# Altium integrated library TI Interface LVDS M-LVDS ECL CML.IntLib: 251 symbols (part 1 of 10)
Pins are listed as number, name and electrical type; pins without a type are passive.

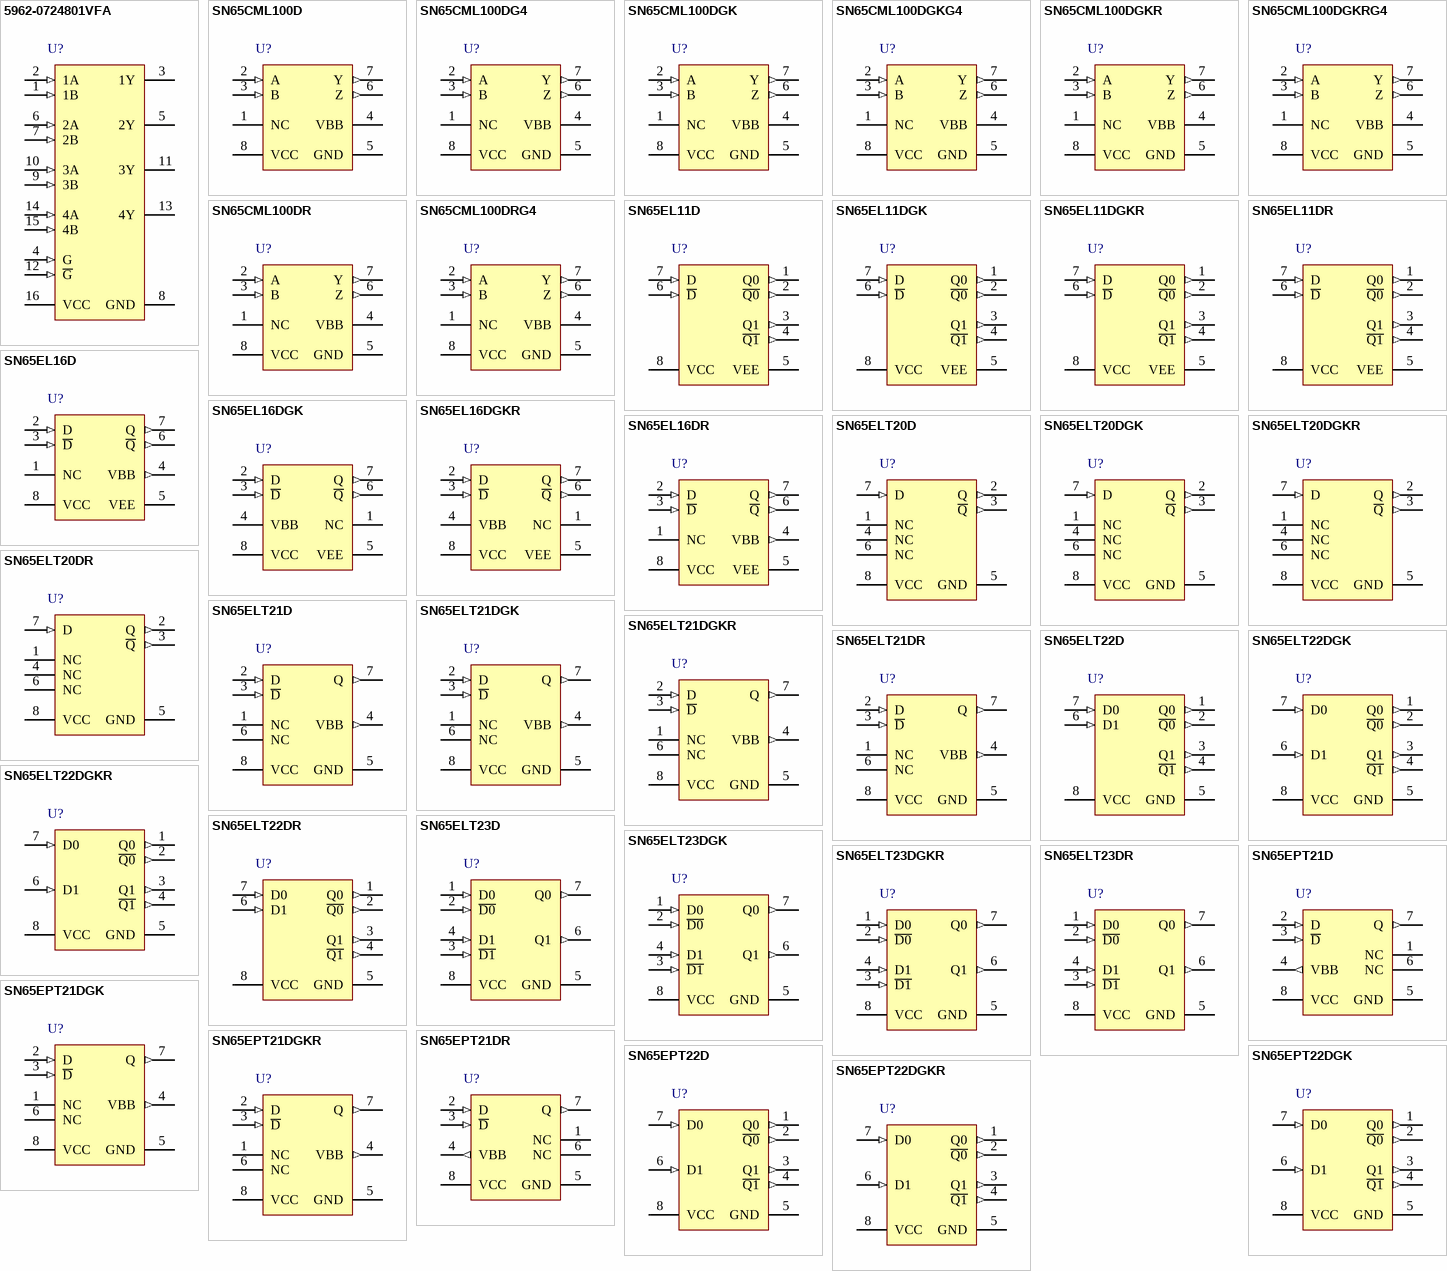
[diagram p0: symbols 5962-0724801VFA to SN65EPT22DGKR]

## 5962-0724801VFA
designator U?
High-Speed Differential Receiver, -55 to +125 degC, 16-pin CFP (W); Manufacturer: Texas Instruments; PartNumber: 5962-0724801VFA; Eco-Plan: TBD; ESD HBM(kV): 15; ICC(Max)(mA): 25; SubFamily: LVDS PHY (<800Mbps); DatasheetVersion: SGLS393C; PackageVersion: revD, Jul-2003; PackageReference: W16; PackageDescription: 16-Lead Ceramic Dual Flatpack, Body 10.9 x 7.2 mm (LxW max), Pitch 1.27 mm; Function: Receiver; Mounting Technology: Surface Mount; Code_JEDEC: MO-092-AC; ComponentLink1Description: Datasheet; ComponentLink1URL: http://www.ti.com/general/docs/lit/getliterature.tsp?genericPartNumber=SN55LVDS33-SP&fileType=pdf; ComponentLink2Description: URL Link1; ComponentLink2URL: SamplesURL:http://www.ti.com/product/sn55lvds33-sp#samples
footprint W16 (DFP, 16 Leads, Body 10.2x6.7mm, Pitch 1.27mm, Gullwing Leadform)
pins: 1 1B (in), 2 1A (in), 3 1Y (hiz), 4 G (in), 5 2Y (hiz), 6 2A (in), 7 2B (in), 8 GND (power), 9 3B (in), 10 3A (in), 11 3Y (hiz), 12 ~{G} (in), 13 4Y (hiz), 14 4A (in), 15 4B (in), 16 VCC (power)

## SN65CML100D
designator U?
1.5 Gbps LVDS / LVPECL / CML to CML Translator / Repeater with CML, LVDS, LVPECL Input and CML Output, 1 Tx and 1 Rx, -40 to +85 degC, 8-pin SOIC (D), Green (RoHS & no Sb/Br); Part-to-Part Skew(Max)(ps): 100; Manufacturer: Texas Instruments; PartNumber: SN65CML100D; ESD HBM(kV): 5; ICC(Max)(mA): 12; No. of Rx: 1; Peak-to-Peak Jitter(Max)(ps): 70; Signaling Rate(Mbps): 1500; SubFamily: Repeater/Translator (>1Gbps); DatasheetVersion: SLLS547; PackageVersion: revM, Jun-2011; PackageReference: D14; PackageDescription: 14-Pin Plastic Small Outline Integrated Circuit, 8.7 x 3.9 mm, Pitch 1.27 mm Pitch; Eco-Plan: Green (RoHS & no Sb/Br); Input Signal: CML, LVDS, LVPECL; No. of Tx: 1; Output Signal: CML; Mounting Technology: Surface Mount; Code_JEDEC: MS-012AB; ComponentLink1Description: Datasheet; ComponentLink1URL: http://www.ti.com/general/docs/lit/getliterature.tsp?genericPartNumber=SN65CML100&fileType=pdf; ComponentLink2Description: URL Link1; ComponentLink2URL: SamplesURL:http://www.ti.com/product/sn65cml100#samples
footprint D14_N (SOIC, 14-Leads, Body 8.7x3.9mm, Pitch 1.27mm, IPC Medium Density)
footprint D14_L (SOIC, 14-Leads, Body 8.7x3.9mm, Pitch 1.27mm, IPC High Density)
footprint D14_M (SOIC, 14-Leads, Body 8.7x3.9mm, Pitch 1.27mm, IPC Low Density)
pins: 1 NC "No connect", 2 A (in) "Differential input", 3 B (in) "Differential input", 4 VBB "Reference voltage output", 5 GND (power) "Ground", 6 Z (out) "Differential output", 7 Y (out) "Differential output", 8 VCC (power) "Power supply"

## SN65CML100DG4
designator U?
1.5 Gbps LVDS / LVPECL / CML to CML Translator / Repeater with CML, LVDS, LVPECL Input and CML Output, 1 Tx and 1 Rx, -40 to +85 degC, 8-pin SOIC (D), Green (RoHS & no Sb/Br); Part-to-Part Skew(Max)(ps): 100; Manufacturer: Texas Instruments; PartNumber: SN65CML100DG4; ESD HBM(kV): 5; ICC(Max)(mA): 12; No. of Rx: 1; Peak-to-Peak Jitter(Max)(ps): 70; Signaling Rate(Mbps): 1500; SubFamily: Repeater/Translator (>1Gbps); DatasheetVersion: SLLS547; PackageVersion: revM, Jun-2011; PackageReference: D14; PackageDescription: 14-Pin Plastic Small Outline Integrated Circuit, 8.7 x 3.9 mm, Pitch 1.27 mm Pitch; Eco-Plan: Green (RoHS & no Sb/Br); Input Signal: CML, LVDS, LVPECL; No. of Tx: 1; Output Signal: CML; Mounting Technology: Surface Mount; Code_JEDEC: MS-012AB; ComponentLink1Description: Datasheet; ComponentLink1URL: http://www.ti.com/general/docs/lit/getliterature.tsp?genericPartNumber=SN65CML100&fileType=pdf; ComponentLink2Description: URL Link1; ComponentLink2URL: SamplesURL:http://www.ti.com/product/sn65cml100#samples
footprint D14_N (SOIC, 14-Leads, Body 8.7x3.9mm, Pitch 1.27mm, IPC Medium Density)
footprint D14_L (SOIC, 14-Leads, Body 8.7x3.9mm, Pitch 1.27mm, IPC High Density)
footprint D14_M (SOIC, 14-Leads, Body 8.7x3.9mm, Pitch 1.27mm, IPC Low Density)
pins: 1 NC "No connect", 2 A (in) "Differential input", 3 B (in) "Differential input", 4 VBB "Reference voltage output", 5 GND (power) "Ground", 6 Z (out) "Differential output", 7 Y (out) "Differential output", 8 VCC (power) "Power supply"

## SN65CML100DGK
designator U?
1.5 Gbps LVDS / LVPECL / CML to CML Translator / Repeater with CML, LVDS, LVPECL Input and CML Output, 1 Tx and 1 Rx, -40 to +85 degC, 8-pin VSSOP (DGK), Green (RoHS & no Sb/Br); Part-to-Part Skew(Max)(ps): 100; Manufacturer: Texas Instruments; PartNumber: SN65CML100DGK; ESD HBM(kV): 5; ICC(Max)(mA): 12; No. of Rx: 1; Peak-to-Peak Jitter(Max)(ps): 70; Signaling Rate(Mbps): 1500; SubFamily: Repeater/Translator (>1Gbps); DatasheetVersion: SLLS547; PackageVersion: revE, May-2006; PackageReference: DGK8; PackageDescription: 8-Pin Thin Small Outline Package 3 x 3 mm Body ,0.65 mm Pitch; Eco-Plan: Green (RoHS & no Sb/Br); Input Signal: CML, LVDS, LVPECL; No. of Tx: 1; Output Signal: CML; Mounting Technology: Surface Mount; Code_JEDEC: MO-187-AA; ComponentLink1Description: Datasheet; ComponentLink1URL: http://www.ti.com/general/docs/lit/getliterature.tsp?genericPartNumber=SN65CML100&fileType=pdf; ComponentLink2Description: URL Link1; ComponentLink2URL: SamplesURL:http://www.ti.com/product/sn65cml100#samples
footprint DGK8_N (TSOP, 8-Leads, Body 3x3mm, Pitch 0.65mm, IPC Medium Density)
footprint DGK8_L (TSOP, 8-Leads, Body 3x3mm, Pitch 0.65mm, IPC High Density)
footprint DGK8_M (TSOP, 8-Leads, Body 3x3mm, Pitch 0.65mm, IPC Low Density)
pins: 1 NC "No connect", 2 A (in) "Differential input", 3 B (in) "Differential input", 4 VBB "Reference voltage output", 5 GND (power) "Ground", 6 Z (out) "Differential output", 7 Y (out) "Differential output", 8 VCC (power) "Power supply"

## SN65CML100DGKG4
designator U?
1.5 Gbps LVDS / LVPECL / CML to CML Translator / Repeater with CML, LVDS, LVPECL Input and CML Output, 1 Tx and 1 Rx, -40 to +85 degC, 8-pin VSSOP (DGK), Green (RoHS & no Sb/Br); Part-to-Part Skew(Max)(ps): 100; Manufacturer: Texas Instruments; PartNumber: SN65CML100DGKG4; ESD HBM(kV): 5; ICC(Max)(mA): 12; No. of Rx: 1; Peak-to-Peak Jitter(Max)(ps): 70; Signaling Rate(Mbps): 1500; SubFamily: Repeater/Translator (>1Gbps); DatasheetVersion: SLLS547; PackageVersion: revE, May-2006; PackageReference: DGK8; PackageDescription: 8-Pin Thin Small Outline Package 3 x 3 mm Body ,0.65 mm Pitch; Eco-Plan: Green (RoHS & no Sb/Br); Input Signal: CML, LVDS, LVPECL; No. of Tx: 1; Output Signal: CML; Mounting Technology: Surface Mount; Code_JEDEC: MO-187-AA; ComponentLink1Description: Datasheet; ComponentLink1URL: http://www.ti.com/general/docs/lit/getliterature.tsp?genericPartNumber=SN65CML100&fileType=pdf; ComponentLink2Description: URL Link1; ComponentLink2URL: SamplesURL:http://www.ti.com/product/sn65cml100#samples
footprint DGK8_N (TSOP, 8-Leads, Body 3x3mm, Pitch 0.65mm, IPC Medium Density)
footprint DGK8_L (TSOP, 8-Leads, Body 3x3mm, Pitch 0.65mm, IPC High Density)
footprint DGK8_M (TSOP, 8-Leads, Body 3x3mm, Pitch 0.65mm, IPC Low Density)
pins: 1 NC "No connect", 2 A (in) "Differential input", 3 B (in) "Differential input", 4 VBB "Reference voltage output", 5 GND (power) "Ground", 6 Z (out) "Differential output", 7 Y (out) "Differential output", 8 VCC (power) "Power supply"

## SN65CML100DGKR
designator U?
1.5 Gbps LVDS / LVPECL / CML to CML Translator / Repeater with CML, LVDS, LVPECL Input and CML Output, 1 Tx and 1 Rx, -40 to +85 degC, 8-pin VSSOP (DGK), Green (RoHS & no Sb/Br); Part-to-Part Skew(Max)(ps): 100; Manufacturer: Texas Instruments; PartNumber: SN65CML100DGKR; ESD HBM(kV): 5; ICC(Max)(mA): 12; No. of Rx: 1; Peak-to-Peak Jitter(Max)(ps): 70; Signaling Rate(Mbps): 1500; SubFamily: Repeater/Translator (>1Gbps); DatasheetVersion: SLLS547; PackageVersion: revE, May-2006; PackageReference: DGK8; PackageDescription: 8-Pin Thin Small Outline Package 3 x 3 mm Body ,0.65 mm Pitch; Eco-Plan: Green (RoHS & no Sb/Br); Input Signal: CML, LVDS, LVPECL; No. of Tx: 1; Output Signal: CML; Mounting Technology: Surface Mount; Code_JEDEC: MO-187-AA; ComponentLink1Description: Datasheet; ComponentLink1URL: http://www.ti.com/general/docs/lit/getliterature.tsp?genericPartNumber=SN65CML100&fileType=pdf; ComponentLink2Description: URL Link1; ComponentLink2URL: SamplesURL:http://www.ti.com/product/sn65cml100#samples
footprint DGK8_N (TSOP, 8-Leads, Body 3x3mm, Pitch 0.65mm, IPC Medium Density)
footprint DGK8_L (TSOP, 8-Leads, Body 3x3mm, Pitch 0.65mm, IPC High Density)
footprint DGK8_M (TSOP, 8-Leads, Body 3x3mm, Pitch 0.65mm, IPC Low Density)
pins: 1 NC "No connect", 2 A (in) "Differential input", 3 B (in) "Differential input", 4 VBB "Reference voltage output", 5 GND (power) "Ground", 6 Z (out) "Differential output", 7 Y (out) "Differential output", 8 VCC (power) "Power supply"

## SN65CML100DGKRG4
designator U?
1.5 Gbps LVDS / LVPECL / CML to CML Translator / Repeater with CML, LVDS, LVPECL Input and CML Output, 1 Tx and 1 Rx, -40 to +85 degC, 8-pin VSSOP (DGK), Green (RoHS & no Sb/Br); Part-to-Part Skew(Max)(ps): 100; Manufacturer: Texas Instruments; PartNumber: SN65CML100DGKRG4; ESD HBM(kV): 5; ICC(Max)(mA): 12; No. of Rx: 1; Peak-to-Peak Jitter(Max)(ps): 70; Signaling Rate(Mbps): 1500; SubFamily: Repeater/Translator (>1Gbps); DatasheetVersion: SLLS547; PackageVersion: revE, May-2006; PackageReference: DGK8; PackageDescription: 8-Pin Thin Small Outline Package 3 x 3 mm Body ,0.65 mm Pitch; Eco-Plan: Green (RoHS & no Sb/Br); Input Signal: CML, LVDS, LVPECL; No. of Tx: 1; Output Signal: CML; Mounting Technology: Surface Mount; Code_JEDEC: MO-187-AA; ComponentLink1Description: Datasheet; ComponentLink1URL: http://www.ti.com/general/docs/lit/getliterature.tsp?genericPartNumber=SN65CML100&fileType=pdf; ComponentLink2Description: URL Link1; ComponentLink2URL: SamplesURL:http://www.ti.com/product/sn65cml100#samples
footprint DGK8_N (TSOP, 8-Leads, Body 3x3mm, Pitch 0.65mm, IPC Medium Density)
footprint DGK8_L (TSOP, 8-Leads, Body 3x3mm, Pitch 0.65mm, IPC High Density)
footprint DGK8_M (TSOP, 8-Leads, Body 3x3mm, Pitch 0.65mm, IPC Low Density)
pins: 1 NC "No connect", 2 A (in) "Differential input", 3 B (in) "Differential input", 4 VBB "Reference voltage output", 5 GND (power) "Ground", 6 Z (out) "Differential output", 7 Y (out) "Differential output", 8 VCC (power) "Power supply"

## SN65CML100DR
designator U?
1.5 Gbps LVDS / LVPECL / CML to CML Translator / Repeater with CML, LVDS, LVPECL Input and CML Output, 1 Tx and 1 Rx, -40 to +85 degC, 8-pin SOIC (D), Green (RoHS & no Sb/Br); Part-to-Part Skew(Max)(ps): 100; Manufacturer: Texas Instruments; PartNumber: SN65CML100DR; ESD HBM(kV): 5; ICC(Max)(mA): 12; No. of Rx: 1; Peak-to-Peak Jitter(Max)(ps): 70; Signaling Rate(Mbps): 1500; SubFamily: Repeater/Translator (>1Gbps); DatasheetVersion: SLLS547; PackageVersion: revE, May-2006; PackageReference: DGK8; PackageDescription: 8-Pin Thin Small Outline Package 3 x 3 mm Body ,0.65 mm Pitch; Eco-Plan: Green (RoHS & no Sb/Br); Input Signal: CML, LVDS, LVPECL; No. of Tx: 1; Output Signal: CML; Mounting Technology: Surface Mount; Code_JEDEC: MO-187-AA; ComponentLink1Description: Datasheet; ComponentLink1URL: http://www.ti.com/general/docs/lit/getliterature.tsp?genericPartNumber=SN65CML100&fileType=pdf; ComponentLink2Description: URL Link1; ComponentLink2URL: SamplesURL:http://www.ti.com/product/sn65cml100#samples
footprint DGK8_N (TSOP, 8-Leads, Body 3x3mm, Pitch 0.65mm, IPC Medium Density)
footprint DGK8_L (TSOP, 8-Leads, Body 3x3mm, Pitch 0.65mm, IPC High Density)
footprint DGK8_M (TSOP, 8-Leads, Body 3x3mm, Pitch 0.65mm, IPC Low Density)
pins: 1 NC "No connect", 2 A (in) "Differential input", 3 B (in) "Differential input", 4 VBB "Reference voltage output", 5 GND (power) "Ground", 6 Z (out) "Differential output", 7 Y (out) "Differential output", 8 VCC (power) "Power supply"

## SN65CML100DRG4
designator U?
1.5 Gbps LVDS / LVPECL / CML to CML Translator / Repeater with CML, LVDS, LVPECL Input and CML Output, 1 Tx and 1 Rx, -40 to +85 degC, 8-pin SOIC (D), Green (RoHS & no Sb/Br); Part-to-Part Skew(Max)(ps): 100; Manufacturer: Texas Instruments; PartNumber: SN65CML100DRG4; ESD HBM(kV): 5; ICC(Max)(mA): 12; No. of Rx: 1; Peak-to-Peak Jitter(Max)(ps): 70; Signaling Rate(Mbps): 1500; SubFamily: Repeater/Translator (>1Gbps); DatasheetVersion: SLLS547; PackageVersion: revE, May-2006; PackageReference: DGK8; PackageDescription: 8-Pin Thin Small Outline Package 3 x 3 mm Body ,0.65 mm Pitch; Eco-Plan: Green (RoHS & no Sb/Br); Input Signal: CML, LVDS, LVPECL; No. of Tx: 1; Output Signal: CML; Mounting Technology: Surface Mount; Code_JEDEC: MO-187-AA; ComponentLink1Description: Datasheet; ComponentLink1URL: http://www.ti.com/general/docs/lit/getliterature.tsp?genericPartNumber=SN65CML100&fileType=pdf; ComponentLink2Description: URL Link1; ComponentLink2URL: SamplesURL:http://www.ti.com/product/sn65cml100#samples
footprint DGK8_N (TSOP, 8-Leads, Body 3x3mm, Pitch 0.65mm, IPC Medium Density)
footprint DGK8_L (TSOP, 8-Leads, Body 3x3mm, Pitch 0.65mm, IPC High Density)
footprint DGK8_M (TSOP, 8-Leads, Body 3x3mm, Pitch 0.65mm, IPC Low Density)
pins: 1 NC "No connect", 2 A (in) "Differential input", 3 B (in) "Differential input", 4 VBB "Reference voltage output", 5 GND (power) "Ground", 6 Z (out) "Differential output", 7 Y (out) "Differential output", 8 VCC (power) "Power supply"

## SN65EL11D
designator U?
5000 Mbps PECL / ECL 1:2 Fanout Buffer, 2 Tx and 1 Rx, -40 to +85 degC, 8-pin SOIC (D), Green (RoHS & no Sb/Br); Manufacturer: Texas Instruments; PartNumber: SN65EL11D; ICC(Max)(mA): 26; No. of Rx: 1; No. of Tx: 2; Signaling Rate(Mbps): 5000; SubFamily: PECL PHY; xECL: TRUE; DatasheetVersion: SLLS920; PackageVersion: revM, Jun-2011; PackageReference: D8; PackageDescription: 8-Pin Plastic Small Outline Integrated Circuit, 4.9 x 3.9 mm, Pitch 1.27 mm Pitch; Supplier 1: Digi-Key; Supplier Part Number 1: 296-24023-5-ND; Supplier 2: Newark; Supplier Part Number 2: 40P3856; Supplier 3: Mouser; Supplier Part Number 3: 595-SN65EL11D; Eco-Plan: Green (RoHS & no Sb/Br); Input Signal: PECL/ECL; Output Signal: PECL/ECL; Mounting Technology: Surface Mount; Code_JEDEC: MS-012AA; ComponentLink1Description: Datasheet; ComponentLink1URL: http://www.ti.com/general/docs/lit/getliterature.tsp?genericPartNumber=SN65EL11&fileType=pdf; ComponentLink2Description: URL Link1; ComponentLink2URL: SamplesURL:http://www.ti.com/product/sn65el11#samples
footprint D8_N (SOIC, 8-Leads, Body 4.9x3.9mm, Pitch 1.27mm, IPC Medium Density)
footprint D8_L (SOIC, 8-Leads, Body 4.9x3.9mm, Pitch 1.27mm, IPC High Density)
footprint D8_M (SOIC, 8-Leads, Body 4.9x3.9mm, Pitch 1.27mm, IPC Low Density)
pins: 1 Q0 (out) "PECL/ECL output.", 2 ~{Q0} (out) "PECL/ECL output.", 3 Q1 (out) "PECL/ECL output.", 4 ~{Q1} (out) "PECL/ECL output.", 5 VEE (power) "Negative supply.", 6 ~{D} (in) "PECL/ECL data input.", 7 D (in) "PECL/ECL data input.", 8 VCC (power) "Positive supply."

## SN65EL11DGK
designator U?
5000 Mbps PECL / ECL 1:2 Fanout Buffer, 2 Tx and 1 Rx, -40 to +85 degC, 8-pin VSSOP (DGK), Green (RoHS & no Sb/Br); Manufacturer: Texas Instruments; PartNumber: SN65EL11DGK; ICC(Max)(mA): 26; No. of Rx: 1; No. of Tx: 2; Signaling Rate(Mbps): 5000; SubFamily: PECL PHY; xECL: TRUE; DatasheetVersion: SLLS920; PackageVersion: revE, May-2006; PackageReference: DGK8; PackageDescription: 8-Pin Thin Small Outline Package 3 x 3 mm Body ,0.65 mm Pitch; Supplier 1: Digi-Key; Supplier Part Number 1: 296-24083-5-ND; Supplier 2: Mouser; Supplier Part Number 2: 595-SN65EL11DGK; Eco-Plan: Green (RoHS & no Sb/Br); Input Signal: PECL/ECL; Output Signal: PECL/ECL; Mounting Technology: Surface Mount; Code_JEDEC: MO-187-AA; ComponentLink1Description: Datasheet; ComponentLink1URL: http://www.ti.com/general/docs/lit/getliterature.tsp?genericPartNumber=SN65EL11&fileType=pdf; ComponentLink2Description: URL Link1; ComponentLink2URL: SamplesURL:http://www.ti.com/product/sn65el11#samples
footprint DGK8_N (TSOP, 8-Leads, Body 3x3mm, Pitch 0.65mm, IPC Medium Density)
footprint DGK8_L (TSOP, 8-Leads, Body 3x3mm, Pitch 0.65mm, IPC High Density)
footprint DGK8_M (TSOP, 8-Leads, Body 3x3mm, Pitch 0.65mm, IPC Low Density)
pins: 1 Q0 (out) "PECL/ECL output", 2 ~{Q0} (out) "PECL/ECL output", 3 Q1 (out) "PECL/ECL output", 4 ~{Q1} (out) "PECL/ECL output", 5 VEE (power) "Negative supply", 6 ~{D} (in) "PECL/ECL data input", 7 D (in) "PECL/ECL data input", 8 VCC (power) "Positive supply"

## SN65EL11DGKR
designator U?
5000 Mbps PECL / ECL 1:2 Fanout Buffer, 2 Tx and 1 Rx, -40 to +85 degC, 8-pin VSSOP (DGK), Green (RoHS & no Sb/Br); Manufacturer: Texas Instruments; PartNumber: SN65EL11DGKR; ICC(Max)(mA): 26; No. of Rx: 1; No. of Tx: 2; Signaling Rate(Mbps): 5000; SubFamily: PECL PHY; xECL: TRUE; DatasheetVersion: SLLS920; PackageVersion: revE, May-2006; PackageReference: DGK8; PackageDescription: 8-Pin Thin Small Outline Package 3 x 3 mm Body ,0.65 mm Pitch; Supplier 1: Digi-Key; Supplier Part Number 1: SN65EL11DGKR-ND; Supplier 2: Mouser; Supplier Part Number 2: 595-SN65EL11DGKR; Eco-Plan: Green (RoHS & no Sb/Br); Input Signal: PECL/ECL; Output Signal: PECL/ECL; Mounting Technology: Surface Mount; Code_JEDEC: MO-187-AA; ComponentLink1Description: Datasheet; ComponentLink1URL: http://www.ti.com/general/docs/lit/getliterature.tsp?genericPartNumber=SN65EL11&fileType=pdf; ComponentLink2Description: URL Link1; ComponentLink2URL: SamplesURL:http://www.ti.com/product/sn65el11#samples
footprint DGK8_N (TSOP, 8-Leads, Body 3x3mm, Pitch 0.65mm, IPC Medium Density)
footprint DGK8_L (TSOP, 8-Leads, Body 3x3mm, Pitch 0.65mm, IPC High Density)
footprint DGK8_M (TSOP, 8-Leads, Body 3x3mm, Pitch 0.65mm, IPC Low Density)
pins: 1 Q0 (out) "PECL/ECL output", 2 ~{Q0} (out) "PECL/ECL output", 3 Q1 (out) "PECL/ECL output", 4 ~{Q1} (out) "PECL/ECL output", 5 VEE (power) "Negative supply", 6 ~{D} (in) "PECL/ECL data input", 7 D (in) "PECL/ECL data input", 8 VCC (power) "Positive supply"

## SN65EL11DR
designator U?
5000 Mbps PECL / ECL 1:2 Fanout Buffer, 2 Tx and 1 Rx, -40 to +85 degC, 8-pin SOIC (D), Green (RoHS & no Sb/Br); Manufacturer: Texas Instruments; PartNumber: SN65EL11DR; ICC(Max)(mA): 26; No. of Rx: 1; No. of Tx: 2; Signaling Rate(Mbps): 5000; SubFamily: PECL PHY; xECL: TRUE; DatasheetVersion: SLLS920; PackageVersion: revM, Jun-2011; PackageReference: D8; PackageDescription: 8-Pin Plastic Small Outline Integrated Circuit, 4.9 x 3.9 mm, Pitch 1.27 mm Pitch; Supplier 1: Digi-Key; Supplier Part Number 1: 296-23980-2-ND; Supplier 2: Digi-Key; Supplier Part Number 2: 296-23980-1-ND; Supplier 3: Digi-Key; Supplier Part Number 3: 296-23980-6-ND; Supplier 4: Mouser; Supplier Part Number 4: 595-SN65EL11DR; Eco-Plan: Green (RoHS & no Sb/Br); Input Signal: PECL/ECL; Output Signal: PECL/ECL; Mounting Technology: Surface Mount; Code_JEDEC: MS-012AA; ComponentLink1Description: Datasheet; ComponentLink1URL: http://www.ti.com/general/docs/lit/getliterature.tsp?genericPartNumber=SN65EL11&fileType=pdf; ComponentLink2Description: URL Link1; ComponentLink2URL: SamplesURL:http://www.ti.com/product/sn65el11#samples
footprint D8_N (SOIC, 8-Leads, Body 4.9x3.9mm, Pitch 1.27mm, IPC Medium Density)
footprint D8_L (SOIC, 8-Leads, Body 4.9x3.9mm, Pitch 1.27mm, IPC High Density)
footprint D8_M (SOIC, 8-Leads, Body 4.9x3.9mm, Pitch 1.27mm, IPC Low Density)
pins: 1 Q0 (out) "PECL/ECL output.", 2 ~{Q0} (out) "PECL/ECL output.", 3 Q1 (out) "PECL/ECL output.", 4 ~{Q1} (out) "PECL/ECL output.", 5 VEE (power) "Negative supply.", 6 ~{D} (in) "PECL/ECL data input.", 7 D (in) "PECL/ECL data input.", 8 VCC (power) "Positive supply."

## SN65EL16D
designator U?
4000 Mbps 5.0 V ECL Differential Buffer, 1 Tx and 1 Rx, -40 to +85 degC, 8-pin SOIC (D), Green (RoHS & no Sb/Br); Manufacturer: Texas Instruments; PartNumber: SN65EL16D; ICC(Max)(mA): 23; Input Signal: ECL/NECL; No. of Rx: 1; Signaling Rate(Mbps): 4000; SubFamily: PECL PHY; xECL: TRUE; DatasheetVersion: SLLS921; PackageVersion: revM, Jun-2011; PackageReference: D8; PackageDescription: 8-Pin Plastic Small Outline Integrated Circuit, 4.9 x 3.9 mm, Pitch 1.27 mm Pitch; Supplier 1: Digi-Key; Supplier Part Number 1: 296-24024-5-ND; Supplier 2: Newark; Supplier Part Number 2: 40P3857; Supplier 3: Mouser; Supplier Part Number 3: 595-SN65EL16D; Eco-Plan: Green (RoHS & no Sb/Br); No. of Tx: 1; Output Signal: ECL; Mounting Technology: Surface Mount; Code_JEDEC: MS-012AA; ComponentLink1Description: Datasheet; ComponentLink1URL: http://www.ti.com/general/docs/lit/getliterature.tsp?genericPartNumber=SN65EL16&fileType=pdf; ComponentLink2Description: URL Link1; ComponentLink2URL: SamplesURL:http://www.ti.com/product/sn65el16#samples
footprint D8_N (SOIC, 8-Leads, Body 4.9x3.9mm, Pitch 1.27mm, IPC Medium Density)
footprint D8_L (SOIC, 8-Leads, Body 4.9x3.9mm, Pitch 1.27mm, IPC High Density)
footprint D8_M (SOIC, 8-Leads, Body 4.9x3.9mm, Pitch 1.27mm, IPC Low Density)
pins: 1 NC "No connected.", 2 D (in) "PECL/ECL data input.", 3 ~{D} (in) "PECL/ECL data input.", 4 VBB (out) "Reference voltage output.", 5 VEE (power) "Negative supply.", 6 ~{Q} (out) "PECL/ECL output.", 7 Q (out) "PECL/ECL output.", 8 VCC (power) "Positive supply."

## SN65EL16DGK
designator U?
4000 Mbps 5.0 V ECL Differential Buffer, 1 Tx and 1 Rx, -40 to +85 degC, 8-pin VSSOP (DGK), Green (RoHS & no Sb/Br); Manufacturer: Texas Instruments; PartNumber: SN65EL16DGK; ICC(Max)(mA): 23; Input Signal: ECL/NECL; No. of Rx: 1; Signaling Rate(Mbps): 4000; SubFamily: PECL PHY; xECL: TRUE; DatasheetVersion: SLLS921; PackageVersion: revE, May-2006; PackageReference: DGK8; PackageDescription: 8-Pin Thin Small Outline Package 3 x 3 mm Body ,0.65 mm Pitch; Supplier 1: Digi-Key; Supplier Part Number 1: 296-24103-5-ND; Supplier 2: Newark; Supplier Part Number 2: 52P6739; Supplier 3: Mouser; Supplier Part Number 3: 595-SN65EL16DGK; Eco-Plan: Green (RoHS & no Sb/Br); No. of Tx: 1; Output Signal: ECL; Mounting Technology: Surface Mount; Code_JEDEC: MO-187-AA; ComponentLink1Description: Datasheet; ComponentLink1URL: http://www.ti.com/general/docs/lit/getliterature.tsp?genericPartNumber=SN65EL16&fileType=pdf; ComponentLink2Description: URL Link1; ComponentLink2URL: SamplesURL:http://www.ti.com/product/sn65el16#samples
footprint DGK8_N (TSOP, 8-Leads, Body 3x3mm, Pitch 0.65mm, IPC Medium Density)
footprint DGK8_L (TSOP, 8-Leads, Body 3x3mm, Pitch 0.65mm, IPC High Density)
footprint DGK8_M (TSOP, 8-Leads, Body 3x3mm, Pitch 0.65mm, IPC Low Density)
pins: 1 NC "No connection", 2 D (in) "PECL/ECL data input", 3 ~{D} (in) "PECL/ECL data input", 4 VBB "Reference voltage output", 5 VEE (power) "Negative supply", 6 ~{Q} (out) "PECL/ECL output", 7 Q (out) "PECL/ECL output", 8 VCC (power) "Positive supply"

## SN65EL16DGKR
designator U?
4000 Mbps 5.0 V ECL Differential Buffer, 1 Tx and 1 Rx, -40 to +85 degC, 8-pin VSSOP (DGK), Green (RoHS & no Sb/Br); Manufacturer: Texas Instruments; PartNumber: SN65EL16DGKR; ICC(Max)(mA): 23; Input Signal: ECL/NECL; No. of Rx: 1; Signaling Rate(Mbps): 4000; SubFamily: PECL PHY; xECL: TRUE; DatasheetVersion: SLLS921; PackageVersion: revE, May-2006; PackageReference: DGK8; PackageDescription: 8-Pin Thin Small Outline Package 3 x 3 mm Body ,0.65 mm Pitch; Supplier 1: Digi-Key; Supplier Part Number 1: SN65EL16DGKR-ND; Supplier 2: Mouser; Supplier Part Number 2: 595-SN65EL16DGKR; Eco-Plan: Green (RoHS & no Sb/Br); No. of Tx: 1; Output Signal: ECL; Mounting Technology: Surface Mount; Code_JEDEC: MO-187-AA; ComponentLink1Description: Datasheet; ComponentLink1URL: http://www.ti.com/general/docs/lit/getliterature.tsp?genericPartNumber=SN65EL16&fileType=pdf; ComponentLink2Description: URL Link1; ComponentLink2URL: SamplesURL:http://www.ti.com/product/sn65el16#samples
footprint DGK8_N (TSOP, 8-Leads, Body 3x3mm, Pitch 0.65mm, IPC Medium Density)
footprint DGK8_L (TSOP, 8-Leads, Body 3x3mm, Pitch 0.65mm, IPC High Density)
footprint DGK8_M (TSOP, 8-Leads, Body 3x3mm, Pitch 0.65mm, IPC Low Density)
pins: 1 NC "No connection", 2 D (in) "PECL/ECL data input", 3 ~{D} (in) "PECL/ECL data input", 4 VBB "Reference voltage output", 5 VEE (power) "Negative supply", 6 ~{Q} (out) "PECL/ECL output", 7 Q (out) "PECL/ECL output", 8 VCC (power) "Positive supply"

## SN65EL16DR
designator U?
4000 Mbps 5.0 V ECL Differential Buffer, 1 Tx and 1 Rx, -40 to +85 degC, 8-pin SOIC (D), Green (RoHS & no Sb/Br); Manufacturer: Texas Instruments; PartNumber: SN65EL16DR; ICC(Max)(mA): 23; Input Signal: ECL/NECL; No. of Rx: 1; Signaling Rate(Mbps): 4000; SubFamily: PECL PHY; xECL: TRUE; DatasheetVersion: SLLS921; PackageVersion: revM, Jun-2011; PackageReference: D8; PackageDescription: 8-Pin Plastic Small Outline Integrated Circuit, 4.9 x 3.9 mm, Pitch 1.27 mm Pitch; Supplier 1: Digi-Key; Supplier Part Number 1: 296-23981-2-ND; Supplier 2: Digi-Key; Supplier Part Number 2: 296-23981-1-ND; Supplier 3: Digi-Key; Supplier Part Number 3: 296-23981-6-ND; Supplier 4: Newark; Supplier Part Number 4: 45P8156; Supplier 5: Mouser; Supplier Part Number 5: 595-SN65EL16DR; Eco-Plan: Green (RoHS & no Sb/Br); No. of Tx: 1; Output Signal: ECL; Mounting Technology: Surface Mount; Code_JEDEC: MS-012AA; ComponentLink1Description: Datasheet; ComponentLink1URL: http://www.ti.com/general/docs/lit/getliterature.tsp?genericPartNumber=SN65EL16&fileType=pdf; ComponentLink2Description: URL Link1; ComponentLink2URL: SamplesURL:http://www.ti.com/product/sn65el16#samples
footprint D8_N (SOIC, 8-Leads, Body 4.9x3.9mm, Pitch 1.27mm, IPC Medium Density)
footprint D8_L (SOIC, 8-Leads, Body 4.9x3.9mm, Pitch 1.27mm, IPC High Density)
footprint D8_M (SOIC, 8-Leads, Body 4.9x3.9mm, Pitch 1.27mm, IPC Low Density)
pins: 1 NC "No connected.", 2 D (in) "PECL/ECL data input.", 3 ~{D} (in) "PECL/ECL data input.", 4 VBB (out) "Reference voltage output.", 5 VEE (power) "Negative supply.", 6 ~{Q} (out) "PECL/ECL output.", 7 Q (out) "PECL/ECL output.", 8 VCC (power) "Positive supply."

## SN65ELT20D
designator U?
860 Mbps 5 V TTL to Differential PECL Translator with TTL Input and PECL Output, 1 Tx and 1 Rx, -40 to +85 degC, 8-pin SOIC (D), Green (RoHS & no Sb/Br); Manufacturer: Texas Instruments; PartNumber: SN65ELT20D; ICC(Max)(mA): 16; No. of Rx: 1; Signaling Rate(Mbps): 860; SubFamily: PECL PHY; xECL: TRUE; DatasheetVersion: SLLS922A; PackageVersion: revC, Aug-2003; PackageReference: PAP64-4650X4650TP; PackageDescription: 64-Pin Plastic Quad Flat Pack, 10 x 10 mm Body, 0.5 mm Pitch, Exposed Pad; Supplier 1: Digi-Key; Supplier Part Number 1: 296-24065-5-ND; Supplier 2: Newark; Supplier Part Number 2: 45P8145; Supplier 3: Mouser; Supplier Part Number 3: 595-SN65ELT20D; Eco-Plan: Green (RoHS & no Sb/Br); Input Signal: TTL; No. of Tx: 1; Output Signal: PECL; Mounting Technology: Surface Mount; Code_JEDEC: MS-026; ComponentLink1Description: Datasheet; ComponentLink1URL: http://www.ti.com/general/docs/lit/getliterature.tsp?genericPartNumber=SN65ELT20&fileType=pdf; ComponentLink2Description: URL Link1; ComponentLink2URL: SamplesURL:http://www.ti.com/product/sn65elt20#samples
footprint PAP64-4650X4650TP_N (Thin QFP, 64-Leads, Body 10x10mm, Pitch 0.5mm, Thermal Pad 5x5mm, IPC Medium Density)
footprint PAP64-4650X4650TP_L (Thin QFP, 64-Leads, Body 10x10mm, Pitch 0.5mm, Thermal Pad 5x5mm, IPC High Density)
footprint PAP64-4650X4650TP_M (Thin QFP, 64-Leads, Body 10x10mm, Pitch 0.5mm, Thermal Pad 5x5mm, IPC Low Density)
pins: 1 NC "No connection", 2 Q (out) "PECL output", 3 ~{Q} (out) "PECL output", 4 NC "No connection", 5 GND (power) "Ground", 6 NC "No connection", 7 D (in) "TTL input", 8 VCC (power) "Positive supply"

## SN65ELT20DGK
designator U?
860 Mbps 5 V TTL to Differential PECL Translator with TTL Input and PECL Output, 1 Tx and 1 Rx, -40 to +85 degC, 8-pin VSSOP (DGK), Green (RoHS & no Sb/Br); Manufacturer: Texas Instruments; PartNumber: SN65ELT20DGK; ICC(Max)(mA): 16; No. of Rx: 1; Signaling Rate(Mbps): 860; SubFamily: PECL PHY; xECL: TRUE; DatasheetVersion: SLLS922A; PackageVersion: revE, May-2006; PackageReference: DGK8; PackageDescription: 8-Pin Thin Small Outline Package 3 x 3 mm Body ,0.65 mm Pitch; Supplier 1: Digi-Key; Supplier Part Number 1: 296-24084-5-ND; Supplier 2: Newark; Supplier Part Number 2: 45P8146; Supplier 3: Mouser; Supplier Part Number 3: 595-SN65ELT20DGK; Eco-Plan: Green (RoHS & no Sb/Br); Input Signal: TTL; No. of Tx: 1; Output Signal: PECL; Mounting Technology: Surface Mount; Code_JEDEC: MO-187-AA; ComponentLink1Description: Datasheet; ComponentLink1URL: http://www.ti.com/general/docs/lit/getliterature.tsp?genericPartNumber=SN65ELT20&fileType=pdf; ComponentLink2Description: URL Link1; ComponentLink2URL: SamplesURL:http://www.ti.com/product/sn65elt20#samples
footprint DGK8_N (TSOP, 8-Leads, Body 3x3mm, Pitch 0.65mm, IPC Medium Density)
footprint DGK8_L (TSOP, 8-Leads, Body 3x3mm, Pitch 0.65mm, IPC High Density)
footprint DGK8_M (TSOP, 8-Leads, Body 3x3mm, Pitch 0.65mm, IPC Low Density)
pins: 1 NC "No connected", 2 Q (out) "PECL output", 3 ~{Q} (out) "PECL output", 4 NC "No connected", 5 GND (power) "Ground", 6 NC "No connected", 7 D (in) "TTL input", 8 VCC (power) "Positive supply"

## SN65ELT20DGKR
designator U?
860 Mbps 5 V TTL to Differential PECL Translator with TTL Input and PECL Output, 1 Tx and 1 Rx, -40 to +85 degC, 8-pin VSSOP (DGK), Green (RoHS & no Sb/Br); Manufacturer: Texas Instruments; PartNumber: SN65ELT20DGKR; ICC(Max)(mA): 16; No. of Rx: 1; Signaling Rate(Mbps): 860; SubFamily: PECL PHY; xECL: TRUE; DatasheetVersion: SLLS922A; PackageVersion: revE, May-2006; PackageReference: DGK8; PackageDescription: 8-Pin Thin Small Outline Package 3 x 3 mm Body ,0.65 mm Pitch; Supplier 1: Digi-Key; Supplier Part Number 1: SN65ELT20DGKR-ND; Supplier 2: Mouser; Supplier Part Number 2: 595-SN65ELT20DGKR; Eco-Plan: Green (RoHS & no Sb/Br); Input Signal: TTL; No. of Tx: 1; Output Signal: PECL; Mounting Technology: Surface Mount; Code_JEDEC: MO-187-AA; ComponentLink1Description: Datasheet; ComponentLink1URL: http://www.ti.com/general/docs/lit/getliterature.tsp?genericPartNumber=SN65ELT20&fileType=pdf; ComponentLink2Description: URL Link1; ComponentLink2URL: SamplesURL:http://www.ti.com/product/sn65elt20#samples
footprint DGK8_N (TSOP, 8-Leads, Body 3x3mm, Pitch 0.65mm, IPC Medium Density)
footprint DGK8_L (TSOP, 8-Leads, Body 3x3mm, Pitch 0.65mm, IPC High Density)
footprint DGK8_M (TSOP, 8-Leads, Body 3x3mm, Pitch 0.65mm, IPC Low Density)
pins: 1 NC "No connected", 2 Q (out) "PECL output", 3 ~{Q} (out) "PECL output", 4 NC "No connected", 5 GND (power) "Ground", 6 NC "No connected", 7 D (in) "TTL input", 8 VCC (power) "Positive supply"

## SN65ELT20DR
designator U?
860 Mbps 5 V TTL to Differential PECL Translator with TTL Input and PECL Output, 1 Tx and 1 Rx, -40 to +85 degC, 8-pin SOIC (D), Green (RoHS & no Sb/Br); Manufacturer: Texas Instruments; PartNumber: SN65ELT20DR; ICC(Max)(mA): 16; No. of Rx: 1; Signaling Rate(Mbps): 860; SubFamily: PECL PHY; xECL: TRUE; DatasheetVersion: SLLS922A; PackageVersion: revE, May-2006; PackageReference: DGK8; PackageDescription: 8-Pin Thin Small Outline Package 3 x 3 mm Body ,0.65 mm Pitch; Supplier 1: Digi-Key; Supplier Part Number 1: SN65ELT20DR-ND; Supplier 2: Mouser; Supplier Part Number 2: 595-SN65ELT20DR; Eco-Plan: Green (RoHS & no Sb/Br); Input Signal: TTL; No. of Tx: 1; Output Signal: PECL; Mounting Technology: Surface Mount; Code_JEDEC: MO-187-AA; ComponentLink1Description: Datasheet; ComponentLink1URL: http://www.ti.com/general/docs/lit/getliterature.tsp?genericPartNumber=SN65ELT20&fileType=pdf; ComponentLink2Description: URL Link1; ComponentLink2URL: SamplesURL:http://www.ti.com/product/sn65elt20#samples
footprint DGK8_N (TSOP, 8-Leads, Body 3x3mm, Pitch 0.65mm, IPC Medium Density)
footprint DGK8_L (TSOP, 8-Leads, Body 3x3mm, Pitch 0.65mm, IPC High Density)
footprint DGK8_M (TSOP, 8-Leads, Body 3x3mm, Pitch 0.65mm, IPC Low Density)
pins: 1 NC "No connection", 2 Q (out) "PECL output", 3 ~{Q} (out) "PECL output", 4 NC "No connection", 5 GND (power) "Ground", 6 NC "No connection", 7 D (in) "TTL input", 8 VCC (power) "Positive supply"

## SN65ELT21D
designator U?
400 Mbps 5 V PECL to TTL Translator with PECL Input and TTL Output, 1 Tx and 1 Rx, -40 to +85 degC, 8-pin SOIC (D), Green (RoHS & no Sb/Br); Manufacturer: Texas Instruments; PartNumber: SN65ELT21D; ICC(Max)(mA): 20; No. of Rx: 1; Signaling Rate(Mbps): 400; SubFamily: PECL PHY; xECL: TRUE; DatasheetVersion: SLLS923; PackageVersion: revE, May-2006; PackageReference: DGK8; PackageDescription: 8-Pin Thin Small Outline Package 3 x 3 mm Body ,0.65 mm Pitch; Supplier 1: Digi-Key; Supplier Part Number 1: 296-24661-5-ND; Supplier 2: Farnell; Supplier Part Number 2: 1779981; Supplier 3: Newark; Supplier Part Number 3: 14R9900; Supplier 4: Mouser; Supplier Part Number 4: 595-SN65ELT21D; Eco-Plan: Green (RoHS & no Sb/Br); Input Signal: PECL; No. of Tx: 1; Output Signal: TTL; Mounting Technology: Surface Mount; Code_JEDEC: MO-187-AA; ComponentLink1Description: Datasheet; ComponentLink1URL: http://www.ti.com/general/docs/lit/getliterature.tsp?genericPartNumber=SN65ELT21&fileType=pdf; ComponentLink2Description: URL Link1; ComponentLink2URL: SamplesURL:http://www.ti.com/product/sn65elt21#samples
footprint DGK8_N (TSOP, 8-Leads, Body 3x3mm, Pitch 0.65mm, IPC Medium Density)
footprint DGK8_L (TSOP, 8-Leads, Body 3x3mm, Pitch 0.65mm, IPC High Density)
footprint DGK8_M (TSOP, 8-Leads, Body 3x3mm, Pitch 0.65mm, IPC Low Density)
pins: 1 NC, 2 D (in) "PECL data input", 3 ~{D} (in) "PECL data input", 4 VBB (out) "Reference voltage output", 5 GND (power), 6 NC, 7 Q (out) "TTL output", 8 VCC (power) "Positive supply"

## SN65ELT21DGK
designator U?
400 Mbps 5 V PECL to TTL Translator with PECL Input and TTL Output, 1 Tx and 1 Rx, -40 to +85 degC, 8-pin VSSOP (DGK), Green (RoHS & no Sb/Br); Manufacturer: Texas Instruments; PartNumber: SN65ELT21DGK; ICC(Max)(mA): 20; No. of Rx: 1; Signaling Rate(Mbps): 400; SubFamily: PECL PHY; xECL: TRUE; DatasheetVersion: SLLS923; PackageVersion: revE, May-2006; PackageReference: DGK8; PackageDescription: 8-Pin Thin Small Outline Package 3 x 3 mm Body ,0.65 mm Pitch; Supplier 1: Digi-Key; Supplier Part Number 1: 296-24936-5-ND; Supplier 2: Mouser; Supplier Part Number 2: 595-SN65ELT21DGK; Eco-Plan: Green (RoHS & no Sb/Br); Input Signal: PECL; No. of Tx: 1; Output Signal: TTL; Mounting Technology: Surface Mount; Code_JEDEC: MO-187-AA; ComponentLink1Description: Datasheet; ComponentLink1URL: http://www.ti.com/general/docs/lit/getliterature.tsp?genericPartNumber=SN65ELT21&fileType=pdf; ComponentLink2Description: URL Link1; ComponentLink2URL: SamplesURL:http://www.ti.com/product/sn65elt21#samples
footprint DGK8_N (TSOP, 8-Leads, Body 3x3mm, Pitch 0.65mm, IPC Medium Density)
footprint DGK8_L (TSOP, 8-Leads, Body 3x3mm, Pitch 0.65mm, IPC High Density)
footprint DGK8_M (TSOP, 8-Leads, Body 3x3mm, Pitch 0.65mm, IPC Low Density)
pins: 1 NC, 2 D (in) "PECL data input", 3 ~{D} (in) "PECL data input", 4 VBB (out) "Reference voltage output", 5 GND (power), 6 NC, 7 Q (out) "TTL output", 8 VCC (power) "Positive supply"

## SN65ELT21DGKR
designator U?
400 Mbps 5 V PECL to TTL Translator with PECL Input and TTL Output, 1 Tx and 1 Rx, -40 to +85 degC, 8-pin VSSOP (DGK), Green (RoHS & no Sb/Br); Manufacturer: Texas Instruments; PartNumber: SN65ELT21DGKR; ICC(Max)(mA): 20; No. of Rx: 1; Signaling Rate(Mbps): 400; SubFamily: PECL PHY; xECL: TRUE; DatasheetVersion: SLLS923; PackageVersion: revE, May-2006; PackageReference: DGK8; PackageDescription: 8-Pin Thin Small Outline Package 3 x 3 mm Body ,0.65 mm Pitch; Supplier 1: Digi-Key; Supplier Part Number 1: SN65ELT21DGKR-ND; Supplier 2: Mouser; Supplier Part Number 2: 595-SN65ELT21DGKR; Eco-Plan: Green (RoHS & no Sb/Br); Input Signal: PECL; No. of Tx: 1; Output Signal: TTL; Mounting Technology: Surface Mount; Code_JEDEC: MO-187-AA; ComponentLink1Description: Datasheet; ComponentLink1URL: http://www.ti.com/general/docs/lit/getliterature.tsp?genericPartNumber=SN65ELT21&fileType=pdf; ComponentLink2Description: URL Link1; ComponentLink2URL: SamplesURL:http://www.ti.com/product/sn65elt21#samples
footprint DGK8_N (TSOP, 8-Leads, Body 3x3mm, Pitch 0.65mm, IPC Medium Density)
footprint DGK8_L (TSOP, 8-Leads, Body 3x3mm, Pitch 0.65mm, IPC High Density)
footprint DGK8_M (TSOP, 8-Leads, Body 3x3mm, Pitch 0.65mm, IPC Low Density)
pins: 1 NC, 2 D (in) "PECL data input", 3 ~{D} (in) "PECL data input", 4 VBB (out) "Reference voltage output", 5 GND (power), 6 NC, 7 Q (out) "TTL output", 8 VCC (power) "Positive supply"

## SN65ELT21DR
designator U?
400 Mbps 5 V PECL to TTL Translator with PECL Input and TTL Output, 1 Tx and 1 Rx, -40 to +85 degC, 8-pin SOIC (D), Green (RoHS & no Sb/Br); Manufacturer: Texas Instruments; PartNumber: SN65ELT21DR; ICC(Max)(mA): 20; No. of Rx: 1; Signaling Rate(Mbps): 400; SubFamily: PECL PHY; xECL: TRUE; DatasheetVersion: SLLS923; PackageVersion: revE, May-2006; PackageReference: DGK8; PackageDescription: 8-Pin Thin Small Outline Package 3 x 3 mm Body ,0.65 mm Pitch; Supplier 1: Digi-Key; Supplier Part Number 1: SN65ELT21DR-ND; Supplier 2: Newark; Supplier Part Number 2: 24R9942; Supplier 3: Mouser; Supplier Part Number 3: 595-SN65ELT21DR; Eco-Plan: Green (RoHS & no Sb/Br); Input Signal: PECL; No. of Tx: 1; Output Signal: TTL; Mounting Technology: Surface Mount; Code_JEDEC: MO-187-AA; ComponentLink1Description: Datasheet; ComponentLink1URL: http://www.ti.com/general/docs/lit/getliterature.tsp?genericPartNumber=SN65ELT21&fileType=pdf; ComponentLink2Description: URL Link1; ComponentLink2URL: SamplesURL:http://www.ti.com/product/sn65elt21#samples
footprint DGK8_N (TSOP, 8-Leads, Body 3x3mm, Pitch 0.65mm, IPC Medium Density)
footprint DGK8_L (TSOP, 8-Leads, Body 3x3mm, Pitch 0.65mm, IPC High Density)
footprint DGK8_M (TSOP, 8-Leads, Body 3x3mm, Pitch 0.65mm, IPC Low Density)
pins: 1 NC, 2 D (in) "PECL data input", 3 ~{D} (in) "PECL data input", 4 VBB (out) "Reference voltage output", 5 GND (power), 6 NC, 7 Q (out) "TTL output", 8 VCC (power) "Positive supply"

## SN65ELT22D
designator U?
1000 Mbps 5 V Dual TTL to Differential PECL Translator, 2 Tx and 2 Rx, -40 to +85 degC, 8-pin SOIC (D), Green (RoHS & no Sb/Br); Manufacturer: Texas Instruments; PartNumber: SN65ELT22D; ICC(Max)(mA): 22; No. of Rx: 2; Signaling Rate(Mbps): 1000; SubFamily: PECL PHY; xECL: TRUE; DatasheetVersion: SLLS924; PackageVersion: revM, Jun-2011; PackageReference: D8; PackageDescription: 8-Pin Plastic Small Outline Integrated Circuit, 4.9 x 3.9 mm, Pitch 1.27 mm Pitch; Supplier 1: Digi-Key; Supplier Part Number 1: 296-24085-5-ND; Supplier 2: Newark; Supplier Part Number 2: 45P8149; Supplier 3: Mouser; Supplier Part Number 3: 595-SN65ELT22D; Eco-Plan: Green (RoHS & no Sb/Br); Input Signal: TTL; No. of Tx: 2; Output Signal: PECL; Mounting Technology: Surface Mount; Code_JEDEC: MS-012AA; ComponentLink1Description: Datasheet; ComponentLink1URL: http://www.ti.com/general/docs/lit/getliterature.tsp?genericPartNumber=SN65ELT22&fileType=pdf; ComponentLink2Description: URL Link1; ComponentLink2URL: SamplesURL:http://www.ti.com/product/sn65elt22#samples
footprint D8_N (SOIC, 8-Leads, Body 4.9x3.9mm, Pitch 1.27mm, IPC Medium Density)
footprint D8_L (SOIC, 8-Leads, Body 4.9x3.9mm, Pitch 1.27mm, IPC High Density)
footprint D8_M (SOIC, 8-Leads, Body 4.9x3.9mm, Pitch 1.27mm, IPC Low Density)
pins: 1 Q0 (out) "PECL outputs", 2 ~{Q0} (out) "PECL outputs", 3 Q1 (out) "PECL outputs", 4 ~{Q1} (out) "PECL outputs", 5 GND (power) "Ground", 6 D1 (in) "TTL inputs", 7 D0 (in) "TTL inputs", 8 VCC (power) "Positive supply"

## SN65ELT22DGK
designator U?
1000 Mbps 5 V Dual TTL to Differential PECL Translator, 2 Tx and 2 Rx, -40 to +85 degC, 8-pin VSSOP (DGK), Green (RoHS & no Sb/Br); Manufacturer: Texas Instruments; PartNumber: SN65ELT22DGK; ICC(Max)(mA): 22; No. of Rx: 2; Signaling Rate(Mbps): 1000; SubFamily: PECL PHY; xECL: TRUE; DatasheetVersion: SLLS924; PackageVersion: revE, May-2006; PackageReference: DGK8; PackageDescription: 8-Pin Thin Small Outline Package 3 x 3 mm Body ,0.65 mm Pitch; Supplier 1: Digi-Key; Supplier Part Number 1: 296-24066-5-ND; Supplier 2: Newark; Supplier Part Number 2: 45P8150; Supplier 3: Mouser; Supplier Part Number 3: 595-SN65ELT22DGK; Eco-Plan: Green (RoHS & no Sb/Br); Input Signal: TTL; No. of Tx: 2; Output Signal: PECL; Mounting Technology: Surface Mount; Code_JEDEC: MO-187-AA; ComponentLink1Description: Datasheet; ComponentLink1URL: http://www.ti.com/general/docs/lit/getliterature.tsp?genericPartNumber=SN65ELT22&fileType=pdf; ComponentLink2Description: URL Link1; ComponentLink2URL: SamplesURL:http://www.ti.com/product/sn65elt22#samples
footprint DGK8_N (TSOP, 8-Leads, Body 3x3mm, Pitch 0.65mm, IPC Medium Density)
footprint DGK8_L (TSOP, 8-Leads, Body 3x3mm, Pitch 0.65mm, IPC High Density)
footprint DGK8_M (TSOP, 8-Leads, Body 3x3mm, Pitch 0.65mm, IPC Low Density)
pins: 1 Q0 (out) "PECL output", 2 ~{Q0} (out) "PECL output", 3 Q1 (out) "PECL output", 4 ~{Q1} (out) "PECL output", 5 GND (power) "Ground", 6 D1 (in) "TTL input", 7 D0 (in) "TTL input", 8 VCC (power) "Positive supply"

## SN65ELT22DGKR
designator U?
1000 Mbps 5 V Dual TTL to Differential PECL Translator, 2 Tx and 2 Rx, -40 to +85 degC, 8-pin VSSOP (DGK), Green (RoHS & no Sb/Br); Manufacturer: Texas Instruments; PartNumber: SN65ELT22DGKR; ICC(Max)(mA): 22; No. of Rx: 2; Signaling Rate(Mbps): 1000; SubFamily: PECL PHY; xECL: TRUE; DatasheetVersion: SLLS924; PackageVersion: revE, May-2006; PackageReference: DGK8; PackageDescription: 8-Pin Thin Small Outline Package 3 x 3 mm Body ,0.65 mm Pitch; Supplier 1: Digi-Key; Supplier Part Number 1: SN65ELT22DGKR-ND; Supplier 2: Mouser; Supplier Part Number 2: 595-SN65ELT22DGKR; Eco-Plan: Green (RoHS & no Sb/Br); Input Signal: TTL; No. of Tx: 2; Output Signal: PECL; Mounting Technology: Surface Mount; Code_JEDEC: MO-187-AA; ComponentLink1Description: Datasheet; ComponentLink1URL: http://www.ti.com/general/docs/lit/getliterature.tsp?genericPartNumber=SN65ELT22&fileType=pdf; ComponentLink2Description: URL Link1; ComponentLink2URL: SamplesURL:http://www.ti.com/product/sn65elt22#samples
footprint DGK8_N (TSOP, 8-Leads, Body 3x3mm, Pitch 0.65mm, IPC Medium Density)
footprint DGK8_L (TSOP, 8-Leads, Body 3x3mm, Pitch 0.65mm, IPC High Density)
footprint DGK8_M (TSOP, 8-Leads, Body 3x3mm, Pitch 0.65mm, IPC Low Density)
pins: 1 Q0 (out) "PECL output", 2 ~{Q0} (out) "PECL output", 3 Q1 (out) "PECL output", 4 ~{Q1} (out) "PECL output", 5 GND (power) "Ground", 6 D1 (in) "TTL input", 7 D0 (in) "TTL input", 8 VCC (power) "Positive supply"

## SN65ELT22DR
designator U?
1000 Mbps 5 V Dual TTL to Differential PECL Translator, 2 Tx and 2 Rx, -40 to +85 degC, 8-pin SOIC (D), Green (RoHS & no Sb/Br); Manufacturer: Texas Instruments; PartNumber: SN65ELT22DR; ICC(Max)(mA): 22; No. of Rx: 2; Signaling Rate(Mbps): 1000; SubFamily: PECL PHY; xECL: TRUE; DatasheetVersion: SLLS924; PackageVersion: revM, Jun-2011; PackageReference: D8; PackageDescription: 8-Pin Plastic Small Outline Integrated Circuit, 4.9 x 3.9 mm, Pitch 1.27 mm Pitch; Supplier 1: Digi-Key; Supplier Part Number 1: SN65ELT22DR-ND; Supplier 2: Mouser; Supplier Part Number 2: 595-SN65ELT22DR; Eco-Plan: Green (RoHS & no Sb/Br); Input Signal: TTL; No. of Tx: 2; Output Signal: PECL; Mounting Technology: Surface Mount; Code_JEDEC: MS-012AA; ComponentLink1Description: Datasheet; ComponentLink1URL: http://www.ti.com/general/docs/lit/getliterature.tsp?genericPartNumber=SN65ELT22&fileType=pdf; ComponentLink2Description: URL Link1; ComponentLink2URL: SamplesURL:http://www.ti.com/product/sn65elt22#samples
footprint D8_N (SOIC, 8-Leads, Body 4.9x3.9mm, Pitch 1.27mm, IPC Medium Density)
footprint D8_L (SOIC, 8-Leads, Body 4.9x3.9mm, Pitch 1.27mm, IPC High Density)
footprint D8_M (SOIC, 8-Leads, Body 4.9x3.9mm, Pitch 1.27mm, IPC Low Density)
pins: 1 Q0 (out) "PECL outputs", 2 ~{Q0} (out) "PECL outputs", 3 Q1 (out) "PECL outputs", 4 ~{Q1} (out) "PECL outputs", 5 GND (power) "Ground", 6 D1 (in) "TTL inputs", 7 D0 (in) "TTL inputs", 8 VCC (power) "Positive supply"

## SN65ELT23D
designator U?
500 Mbps 5 V Dual Differential PECL Buffer to TTL Translator, 2 Tx and 2 Rx, -40 to +85 degC, 8-pin SOIC (D), Green (RoHS & no Sb/Br); Manufacturer: Texas Instruments; PartNumber: SN65ELT23D; ICC(Max)(mA): 25; No. of Rx: 2; Signaling Rate(Mbps): 500; SubFamily: PECL PHY; xECL: TRUE; DatasheetVersion: SLLS925; PackageVersion: revM, Jun-2011; PackageReference: D8; PackageDescription: 8-Pin Plastic Small Outline Integrated Circuit, 4.9 x 3.9 mm, Pitch 1.27 mm Pitch; Supplier 1: Digi-Key; Supplier Part Number 1: 296-24820-5-ND; Supplier 2: Newark; Supplier Part Number 2: 14R9901; Supplier 3: Mouser; Supplier Part Number 3: 595-SN65ELT23D; Eco-Plan: Green (RoHS & no Sb/Br); Input Signal: PECL; No. of Tx: 2; Output Signal: TTL; Mounting Technology: Surface Mount; Code_JEDEC: MS-012AA; ComponentLink1Description: Datasheet; ComponentLink1URL: http://www.ti.com/general/docs/lit/getliterature.tsp?genericPartNumber=SN65ELT23&fileType=pdf; ComponentLink2Description: URL Link1; ComponentLink2URL: SamplesURL:http://www.ti.com/product/sn65elt23#samples
footprint D8_N (SOIC, 8-Leads, Body 4.9x3.9mm, Pitch 1.27mm, IPC Medium Density)
footprint D8_L (SOIC, 8-Leads, Body 4.9x3.9mm, Pitch 1.27mm, IPC High Density)
footprint D8_M (SOIC, 8-Leads, Body 4.9x3.9mm, Pitch 1.27mm, IPC Low Density)
pins: 1 D0 (in) "PECL input.", 2 ~{D0} (in) "PECL input.", 3 ~{D1} (in) "PECL input.", 4 D1 (in) "PECL input.", 5 GND (power) "Ground.", 6 Q1 (out) "TTL output.", 7 Q0 (out) "TTL output.", 8 VCC (power) "Positive supply."

## SN65ELT23DGK
designator U?
500 Mbps 5 V Dual Differential PECL Buffer to TTL Translator, 2 Tx and 2 Rx, -40 to +85 degC, 8-pin VSSOP (DGK), Green (RoHS & no Sb/Br); Manufacturer: Texas Instruments; PartNumber: SN65ELT23DGK; ICC(Max)(mA): 25; No. of Rx: 2; Signaling Rate(Mbps): 500; SubFamily: PECL PHY; xECL: TRUE; DatasheetVersion: SLLS925; PackageVersion: revE, May-2006; PackageReference: DGK8; PackageDescription: 8-Pin Thin Small Outline Package 3 x 3 mm Body ,0.65 mm Pitch; Supplier 1: Digi-Key; Supplier Part Number 1: 296-24937-5-ND; Supplier 2: Mouser; Supplier Part Number 2: 595-SN65ELT23DGK; Eco-Plan: Green (RoHS & no Sb/Br); Input Signal: PECL; No. of Tx: 2; Output Signal: TTL; Mounting Technology: Surface Mount; Code_JEDEC: MO-187-AA; ComponentLink1Description: Datasheet; ComponentLink1URL: http://www.ti.com/general/docs/lit/getliterature.tsp?genericPartNumber=SN65ELT23&fileType=pdf; ComponentLink2Description: URL Link1; ComponentLink2URL: SamplesURL:http://www.ti.com/product/sn65elt23#samples
footprint DGK8_N (TSOP, 8-Leads, Body 3x3mm, Pitch 0.65mm, IPC Medium Density)
footprint DGK8_L (TSOP, 8-Leads, Body 3x3mm, Pitch 0.65mm, IPC High Density)
footprint DGK8_M (TSOP, 8-Leads, Body 3x3mm, Pitch 0.65mm, IPC Low Density)
pins: 1 D0 (in) "PECL input", 2 ~{D0} (in) "PECL input", 3 ~{D1} (in) "PECL input", 4 D1 (in) "PECL input", 5 GND (power) "Ground", 6 Q1 (out) "TTL output", 7 Q0 (out) "TTL output", 8 VCC (power) "Positive supply"

## SN65ELT23DGKR
designator U?
500 Mbps 5 V Dual Differential PECL Buffer to TTL Translator, 2 Tx and 2 Rx, -40 to +85 degC, 8-pin VSSOP (DGK), Green (RoHS & no Sb/Br); Manufacturer: Texas Instruments; PartNumber: SN65ELT23DGKR; ICC(Max)(mA): 25; No. of Rx: 2; Signaling Rate(Mbps): 500; SubFamily: PECL PHY; xECL: TRUE; DatasheetVersion: SLLS925; PackageVersion: revE, May-2006; PackageReference: DGK8; PackageDescription: 8-Pin Thin Small Outline Package 3 x 3 mm Body ,0.65 mm Pitch; Supplier 1: Digi-Key; Supplier Part Number 1: SN65ELT23DGKR-ND; Supplier 2: Newark; Supplier Part Number 2: 50R7859; Supplier 3: Mouser; Supplier Part Number 3: 595-SN65ELT23DGKR; Eco-Plan: Green (RoHS & no Sb/Br); Input Signal: PECL; No. of Tx: 2; Output Signal: TTL; Mounting Technology: Surface Mount; Code_JEDEC: MO-187-AA; ComponentLink1Description: Datasheet; ComponentLink1URL: http://www.ti.com/general/docs/lit/getliterature.tsp?genericPartNumber=SN65ELT23&fileType=pdf; ComponentLink2Description: URL Link1; ComponentLink2URL: SamplesURL:http://www.ti.com/product/sn65elt23#samples
footprint DGK8_N (TSOP, 8-Leads, Body 3x3mm, Pitch 0.65mm, IPC Medium Density)
footprint DGK8_L (TSOP, 8-Leads, Body 3x3mm, Pitch 0.65mm, IPC High Density)
footprint DGK8_M (TSOP, 8-Leads, Body 3x3mm, Pitch 0.65mm, IPC Low Density)
pins: 1 D0 (in) "PECL input", 2 ~{D0} (in) "PECL input", 3 ~{D1} (in) "PECL input", 4 D1 (in) "PECL input", 5 GND (power) "Ground", 6 Q1 (out) "TTL output", 7 Q0 (out) "TTL output", 8 VCC (power) "Positive supply"